# EAGLE library part SI1470DH (library DAQTEST)
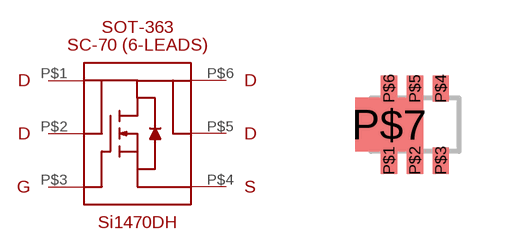
[diagram p5: symbol with the pads of SI1470DH; footprint SI1470DH]

Designator prefix -

## SI1470DH  [SI1470DH]
P$1  P$1
P$2  P$2
P$3  P$3
P$4  P$4
P$5  P$5
P$6  P$6

## Footprint SI1470DH (pad centres in mm)
smd 0.406 x 0.66: P$1 -0.648,-0.902; P$2 0,-0.902; P$3 0.648,-0.902; P$4 0.648,0.902; P$5 0,0.902; P$6 -0.648,0.902
smd 1.702 x 1.35: P$7 -0.648,0